# Altium footprint library Conn Header Breakaway.PcbLib: 40 footprints (part 4 of 4)
Each footprint in its own frame and in the unit in brackets; x right, y up, seen from the top. Pads: shape width x height; smd on the part's side, far side on the other; paste and mask are expansions set on the pad; w line width, h text height; cw(c..) or ccw(c..) is an arc to the next point about the centre after c.
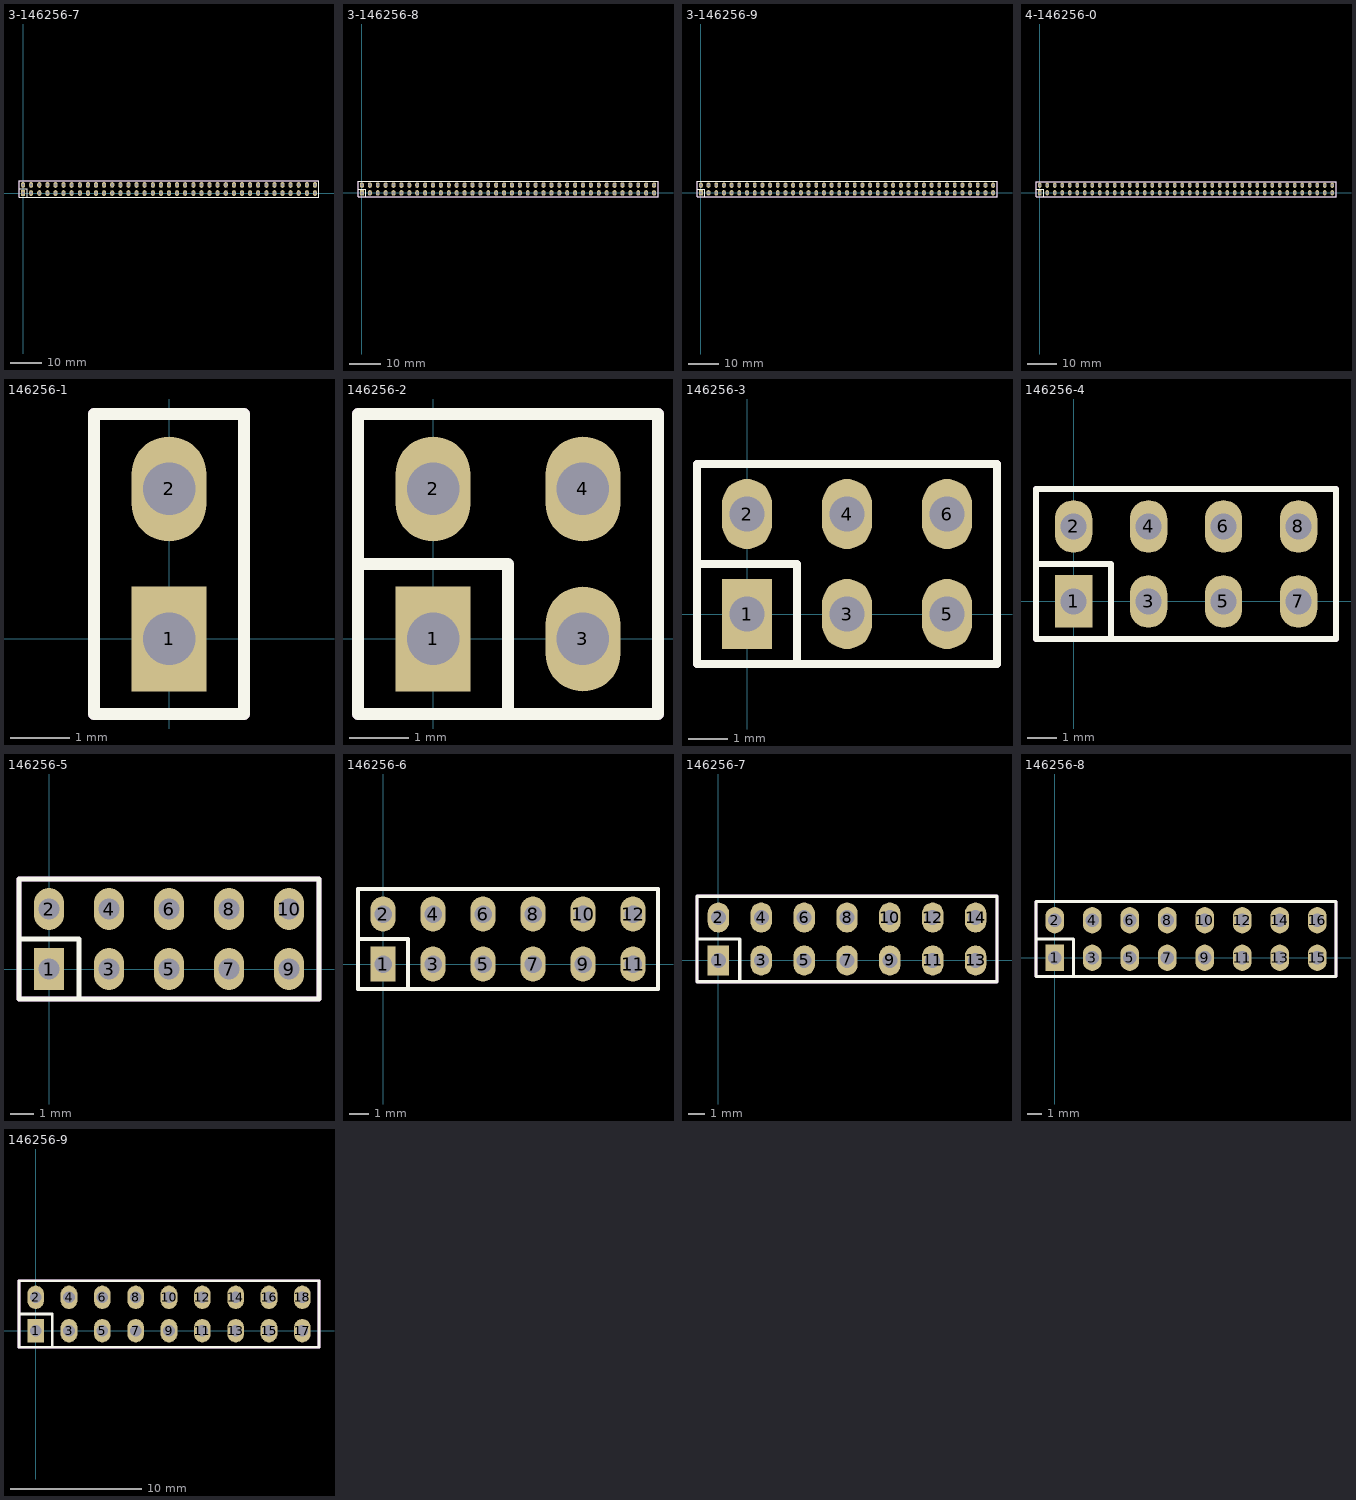
[diagram p3: the footprints below, top view; thin cyan lines are the x and y axes]

## 3-146256-7 [mil] "CONN Header Breakaway"
pads (74):
  rect 50x70 hole 35: 1(0,0)
  oval 50x70 hole 35: 2(0,100) 3(100,0) 4(100,100) 5(200,0) 6(200,100) 7(300,0) 8(300,100) 9(400,0) 10(400,100) 11(500,0) 12(500,100) 13(600,0) 14(600,100) 15(700,0) 16(700,100) 17(800,0) 18(800,100) 19(900,0) 20(900,100) 21(1000,0) 22(1000,100) 23(1100,0) 24(1100,100) 25(1200,0) 26(1200,100) 27(1300,0) 28(1300,100) 29(1400,0) 30(1400,100) 31(1500,0) 32(1500,100) 33(1600,0) 34(1600,100) 35(1700,0) 36(1700,100) 37(1800,0) 38(1800,100) 39(1900,0) 40(1900,100) 41(2000,0) 42(2000,100) 43(2100,0) 44(2100,100) 45(2200,0) 46(2200,100) 47(2300,0) 48(2300,100) 49(2400,0) 50(2400,100) 51(2500,0) 52(2500,100) 53(2600,0) 54(2600,100) 55(2700,0) 56(2700,100) 57(2800,0) 58(2800,100) 59(2900,0) 60(2900,100) 61(3000,0) 62(3000,100) 63(3100,0) 64(3100,100) 65(3200,0) 66(3200,100) 67(3300,0) 68(3300,100) 69(3400,0) 70(3400,100) 71(3500,0) 72(3500,100) 73(3600,0) 74(3600,100)
Top Overlay:
  lines w7.87: -50,50 50,50 50,-50 ; -50,-50 3650,-50 3650,150 -50,150 -50,-50
Mechanical 1:
  lines w7.87: -50,-50 -50,150 3650,150 3650,-50 -50,-50
3D body: height 320, standoff -120, extent -12.5,87.5 12.5,112.5
3D body: height 90, standoff 0, extent -50,-45.99 50,146.01
3D body: height 320, standoff -120, extent -12.5,-12.5 12.5,12.5
3D body: height 320, standoff -120, extent 87.5,87.5 112.5,112.5
3D body: height 90, standoff 0, extent 50,-45.99 150,146.01
3D body: height 320, standoff -120, extent 87.5,-12.5 112.5,12.5
3D body: height 320, standoff -120, extent 187.5,87.5 212.5,112.5
3D body: height 90, standoff 0, extent 150,-45.99 250,146.01
3D body: height 320, standoff -120, extent 187.5,-12.5 212.5,12.5
3D body: height 320, standoff -120, extent 287.5,87.5 312.5,112.5
3D body: height 90, standoff 0, extent 250,-45.99 350,146.01
3D body: height 320, standoff -120, extent 287.5,-12.5 312.5,12.5
3D body: height 320, standoff -120, extent 387.5,87.5 412.5,112.5
3D body: height 90, standoff 0, extent 350,-45.99 450,146.01
3D body: height 320, standoff -120, extent 387.5,-12.5 412.5,12.5
3D body: height 320, standoff -120, extent 487.5,87.5 512.5,112.5
3D body: height 90, standoff 0, extent 450,-45.99 550,146.01
3D body: height 320, standoff -120, extent 487.5,-12.5 512.5,12.5
3D body: height 320, standoff -120, extent 587.5,87.5 612.5,112.5
3D body: height 90, standoff 0, extent 550,-45.99 650,146.01
3D body: height 320, standoff -120, extent 587.5,-12.5 612.5,12.5
3D body: height 320, standoff -120, extent 687.5,87.5 712.5,112.5
3D body: height 90, standoff 0, extent 650,-45.99 750,146.01
3D body: height 320, standoff -120, extent 687.5,-12.5 712.5,12.5
3D body: height 320, standoff -120, extent 787.5,87.5 812.5,112.5
3D body: height 90, standoff 0, extent 750,-45.99 850,146.01
3D body: height 320, standoff -120, extent 787.5,-12.5 812.5,12.5
3D body: height 320, standoff -120, extent 887.5,87.5 912.5,112.5
3D body: height 90, standoff 0, extent 850,-45.99 950,146.01
3D body: height 320, standoff -120, extent 887.5,-12.5 912.5,12.5
3D body: height 320, standoff -120, extent 987.5,87.5 1012.5,112.5
3D body: height 90, standoff 0, extent 950,-45.99 1050,146.01
3D body: height 320, standoff -120, extent 987.5,-12.5 1012.5,12.5
3D body: height 320, standoff -120, extent 1087.5,87.5 1112.5,112.5
3D body: height 90, standoff 0, extent 1050,-45.99 1150,146.01
3D body: height 320, standoff -120, extent 1087.5,-12.5 1112.5,12.5
3D body: height 320, standoff -120, extent 1187.5,87.5 1212.5,112.5
3D body: height 90, standoff 0, extent 1150,-45.99 1250,146.01
3D body: height 320, standoff -120, extent 1187.5,-12.5 1212.5,12.5
3D body: height 320, standoff -120, extent 1287.5,87.5 1312.5,112.5
3D body: height 90, standoff 0, extent 1250,-45.99 1350,146.01
3D body: height 320, standoff -120, extent 1287.5,-12.5 1312.5,12.5
3D body: height 320, standoff -120, extent 1387.5,87.5 1412.5,112.5
3D body: height 90, standoff 0, extent 1350,-45.99 1450,146.01
3D body: height 320, standoff -120, extent 1387.5,-12.5 1412.5,12.5
3D body: height 320, standoff -120, extent 1487.5,87.5 1512.5,112.5
3D body: height 90, standoff 0, extent 1450,-45.99 1550,146.01
3D body: height 320, standoff -120, extent 1487.5,-12.5 1512.5,12.5
3D body: height 320, standoff -120, extent 1587.5,87.5 1612.5,112.5
3D body: height 90, standoff 0, extent 1550,-45.99 1650,146.01
3D body: height 320, standoff -120, extent 1587.5,-12.5 1612.5,12.5
3D body: height 320, standoff -120, extent 1687.5,87.5 1712.5,112.5
3D body: height 90, standoff 0, extent 1650,-45.99 1750,146.01
3D body: height 320, standoff -120, extent 1687.5,-12.5 1712.5,12.5
3D body: height 320, standoff -120, extent 1787.5,87.5 1812.5,112.5
3D body: height 90, standoff 0, extent 1750,-45.99 1850,146.01
3D body: height 320, standoff -120, extent 1787.5,-12.5 1812.5,12.5
3D body: height 320, standoff -120, extent 1887.5,87.5 1912.5,112.5
3D body: height 90, standoff 0, extent 1850,-45.99 1950,146.01
3D body: height 320, standoff -120, extent 1887.5,-12.5 1912.5,12.5
3D body: height 320, standoff -120, extent 1987.5,87.5 2012.5,112.5
3D body: height 90, standoff 0, extent 1950,-45.99 2050,146.01
3D body: height 320, standoff -120, extent 1987.5,-12.5 2012.5,12.5
3D body: height 320, standoff -120, extent 2087.5,87.5 2112.5,112.5
3D body: height 90, standoff 0, extent 2050,-45.99 2150,146.01
3D body: height 320, standoff -120, extent 2087.5,-12.5 2112.5,12.5
3D body: height 320, standoff -120, extent 2187.5,87.5 2212.5,112.5
3D body: height 90, standoff 0, extent 2150,-45.99 2250,146.01
3D body: height 320, standoff -120, extent 2187.5,-12.5 2212.5,12.5
3D body: height 320, standoff -120, extent 2287.5,87.5 2312.5,112.5
3D body: height 90, standoff 0, extent 2250,-45.99 2350,146.01
3D body: height 320, standoff -120, extent 2287.5,-12.5 2312.5,12.5
3D body: height 320, standoff -120, extent 2387.5,87.5 2412.5,112.5
3D body: height 90, standoff 0, extent 2350,-45.99 2450,146.01
3D body: height 320, standoff -120, extent 2387.5,-12.5 2412.5,12.5
3D body: height 320, standoff -120, extent 2487.5,87.5 2512.5,112.5
3D body: height 90, standoff 0, extent 2450,-45.99 2550,146.01
3D body: height 320, standoff -120, extent 2487.5,-12.5 2512.5,12.5
3D body: height 320, standoff -120, extent 2587.5,87.5 2612.5,112.5
3D body: height 90, standoff 0, extent 2550,-45.99 2650,146.01
3D body: height 320, standoff -120, extent 2587.5,-12.5 2612.5,12.5
3D body: height 320, standoff -120, extent 2687.5,87.5 2712.5,112.5
3D body: height 90, standoff 0, extent 2650,-45.99 2750,146.01
3D body: height 320, standoff -120, extent 2687.5,-12.5 2712.5,12.5
3D body: height 320, standoff -120, extent 2787.5,87.5 2812.5,112.5
3D body: height 90, standoff 0, extent 2750,-45.99 2850,146.01
3D body: height 320, standoff -120, extent 2787.5,-12.5 2812.5,12.5
3D body: height 320, standoff -120, extent 2887.5,87.5 2912.5,112.5
3D body: height 90, standoff 0, extent 2850,-45.99 2950,146.01
3D body: height 320, standoff -120, extent 2887.5,-12.5 2912.5,12.5
3D body: height 320, standoff -120, extent 2987.5,87.5 3012.5,112.5
3D body: height 90, standoff 0, extent 2950,-45.99 3050,146.01
3D body: height 320, standoff -120, extent 2987.5,-12.5 3012.5,12.5
3D body: height 320, standoff -120, extent 3087.5,87.5 3112.5,112.5
3D body: height 90, standoff 0, extent 3050,-45.99 3150,146.01
3D body: height 320, standoff -120, extent 3087.5,-12.5 3112.5,12.5
3D body: height 320, standoff -120, extent 3187.5,87.5 3212.5,112.5
3D body: height 90, standoff 0, extent 3150,-45.99 3250,146.01
3D body: height 320, standoff -120, extent 3187.5,-12.5 3212.5,12.5
3D body: height 320, standoff -120, extent 3287.5,87.5 3312.5,112.5
3D body: height 90, standoff 0, extent 3250,-45.99 3350,146.01
3D body: height 320, standoff -120, extent 3287.5,-12.5 3312.5,12.5
3D body: height 320, standoff -120, extent 3387.5,87.5 3412.5,112.5
3D body: height 90, standoff 0, extent 3350,-45.99 3450,146.01
3D body: height 320, standoff -120, extent 3387.5,-12.5 3412.5,12.5
3D body: height 320, standoff -120, extent 3487.5,87.5 3512.5,112.5
3D body: height 90, standoff 0, extent 3450,-45.99 3550,146.01
3D body: height 320, standoff -120, extent 3487.5,-12.5 3512.5,12.5
3D body: height 320, standoff -120, extent 3587.5,87.5 3612.5,112.5
3D body: height 90, standoff 0, extent 3550,-45.99 3650,146.01
3D body: height 320, standoff -120, extent 3587.5,-12.5 3612.5,12.5

## 3-146256-8 [mil] "CONN Header Breakaway"
pads (76):
  rect 50x70 hole 35: 1(0,0)
  oval 50x70 hole 35: 2(0,100) 3(100,0) 4(100,100) 5(200,0) 6(200,100) 7(300,0) 8(300,100) 9(400,0) 10(400,100) 11(500,0) 12(500,100) 13(600,0) 14(600,100) 15(700,0) 16(700,100) 17(800,0) 18(800,100) 19(900,0) 20(900,100) 21(1000,0) 22(1000,100) 23(1100,0) 24(1100,100) 25(1200,0) 26(1200,100) 27(1300,0) 28(1300,100) 29(1400,0) 30(1400,100) 31(1500,0) 32(1500,100) 33(1600,0) 34(1600,100) 35(1700,0) 36(1700,100) 37(1800,0) 38(1800,100) 39(1900,0) 40(1900,100) 41(2000,0) 42(2000,100) 43(2100,0) 44(2100,100) 45(2200,0) 46(2200,100) 47(2300,0) 48(2300,100) 49(2400,0) 50(2400,100) 51(2500,0) 52(2500,100) 53(2600,0) 54(2600,100) 55(2700,0) 56(2700,100) 57(2800,0) 58(2800,100) 59(2900,0) 60(2900,100) 61(3000,0) 62(3000,100) 63(3100,0) 64(3100,100) 65(3200,0) 66(3200,100) 67(3300,0) 68(3300,100) 69(3400,0) 70(3400,100) 71(3500,0) 72(3500,100) 73(3600,0) 74(3600,100) 75(3700,0) 76(3700,100)
Top Overlay:
  lines w7.87: -50,50 50,50 50,-50 ; -50,-50 3750,-50 3750,150 -50,150 -50,-50
Mechanical 1:
  lines w7.87: -50,-50 -50,150 3750,150 3750,-50 -50,-50
3D body: height 320, standoff -120, extent -12.5,87.5 12.5,112.5
3D body: height 90, standoff 0, extent -50,-45.99 50,146.01
3D body: height 320, standoff -120, extent -12.5,-12.5 12.5,12.5
3D body: height 320, standoff -120, extent 87.5,87.5 112.5,112.5
3D body: height 90, standoff 0, extent 50,-45.99 150,146.01
3D body: height 320, standoff -120, extent 87.5,-12.5 112.5,12.5
3D body: height 320, standoff -120, extent 187.5,87.5 212.5,112.5
3D body: height 90, standoff 0, extent 150,-45.99 250,146.01
3D body: height 320, standoff -120, extent 187.5,-12.5 212.5,12.5
3D body: height 320, standoff -120, extent 287.5,87.5 312.5,112.5
3D body: height 90, standoff 0, extent 250,-45.99 350,146.01
3D body: height 320, standoff -120, extent 287.5,-12.5 312.5,12.5
3D body: height 320, standoff -120, extent 387.5,87.5 412.5,112.5
3D body: height 90, standoff 0, extent 350,-45.99 450,146.01
3D body: height 320, standoff -120, extent 387.5,-12.5 412.5,12.5
3D body: height 320, standoff -120, extent 487.5,87.5 512.5,112.5
3D body: height 90, standoff 0, extent 450,-45.99 550,146.01
3D body: height 320, standoff -120, extent 487.5,-12.5 512.5,12.5
3D body: height 320, standoff -120, extent 587.5,87.5 612.5,112.5
3D body: height 90, standoff 0, extent 550,-45.99 650,146.01
3D body: height 320, standoff -120, extent 587.5,-12.5 612.5,12.5
3D body: height 320, standoff -120, extent 687.5,87.5 712.5,112.5
3D body: height 90, standoff 0, extent 650,-45.99 750,146.01
3D body: height 320, standoff -120, extent 687.5,-12.5 712.5,12.5
3D body: height 320, standoff -120, extent 787.5,87.5 812.5,112.5
3D body: height 90, standoff 0, extent 750,-45.99 850,146.01
3D body: height 320, standoff -120, extent 787.5,-12.5 812.5,12.5
3D body: height 320, standoff -120, extent 887.5,87.5 912.5,112.5
3D body: height 90, standoff 0, extent 850,-45.99 950,146.01
3D body: height 320, standoff -120, extent 887.5,-12.5 912.5,12.5
3D body: height 320, standoff -120, extent 987.5,87.5 1012.5,112.5
3D body: height 90, standoff 0, extent 950,-45.99 1050,146.01
3D body: height 320, standoff -120, extent 987.5,-12.5 1012.5,12.5
3D body: height 320, standoff -120, extent 1087.5,87.5 1112.5,112.5
3D body: height 90, standoff 0, extent 1050,-45.99 1150,146.01
3D body: height 320, standoff -120, extent 1087.5,-12.5 1112.5,12.5
3D body: height 320, standoff -120, extent 1187.5,87.5 1212.5,112.5
3D body: height 90, standoff 0, extent 1150,-45.99 1250,146.01
3D body: height 320, standoff -120, extent 1187.5,-12.5 1212.5,12.5
3D body: height 320, standoff -120, extent 1287.5,87.5 1312.5,112.5
3D body: height 90, standoff 0, extent 1250,-45.99 1350,146.01
3D body: height 320, standoff -120, extent 1287.5,-12.5 1312.5,12.5
3D body: height 320, standoff -120, extent 1387.5,87.5 1412.5,112.5
3D body: height 90, standoff 0, extent 1350,-45.99 1450,146.01
3D body: height 320, standoff -120, extent 1387.5,-12.5 1412.5,12.5
3D body: height 320, standoff -120, extent 1487.5,87.5 1512.5,112.5
3D body: height 90, standoff 0, extent 1450,-45.99 1550,146.01
3D body: height 320, standoff -120, extent 1487.5,-12.5 1512.5,12.5
3D body: height 320, standoff -120, extent 1587.5,87.5 1612.5,112.5
3D body: height 90, standoff 0, extent 1550,-45.99 1650,146.01
3D body: height 320, standoff -120, extent 1587.5,-12.5 1612.5,12.5
3D body: height 320, standoff -120, extent 1687.5,87.5 1712.5,112.5
3D body: height 90, standoff 0, extent 1650,-45.99 1750,146.01
3D body: height 320, standoff -120, extent 1687.5,-12.5 1712.5,12.5
3D body: height 320, standoff -120, extent 1787.5,87.5 1812.5,112.5
3D body: height 90, standoff 0, extent 1750,-45.99 1850,146.01
3D body: height 320, standoff -120, extent 1787.5,-12.5 1812.5,12.5
3D body: height 320, standoff -120, extent 1887.5,87.5 1912.5,112.5
3D body: height 90, standoff 0, extent 1850,-45.99 1950,146.01
3D body: height 320, standoff -120, extent 1887.5,-12.5 1912.5,12.5
3D body: height 320, standoff -120, extent 1987.5,87.5 2012.5,112.5
3D body: height 90, standoff 0, extent 1950,-45.99 2050,146.01
3D body: height 320, standoff -120, extent 1987.5,-12.5 2012.5,12.5
3D body: height 320, standoff -120, extent 2087.5,87.5 2112.5,112.5
3D body: height 90, standoff 0, extent 2050,-45.99 2150,146.01
3D body: height 320, standoff -120, extent 2087.5,-12.5 2112.5,12.5
3D body: height 320, standoff -120, extent 2187.5,87.5 2212.5,112.5
3D body: height 90, standoff 0, extent 2150,-45.99 2250,146.01
3D body: height 320, standoff -120, extent 2187.5,-12.5 2212.5,12.5
3D body: height 320, standoff -120, extent 2287.5,87.5 2312.5,112.5
3D body: height 90, standoff 0, extent 2250,-45.99 2350,146.01
3D body: height 320, standoff -120, extent 2287.5,-12.5 2312.5,12.5
3D body: height 320, standoff -120, extent 2387.5,87.5 2412.5,112.5
3D body: height 90, standoff 0, extent 2350,-45.99 2450,146.01
3D body: height 320, standoff -120, extent 2387.5,-12.5 2412.5,12.5
3D body: height 320, standoff -120, extent 2487.5,87.5 2512.5,112.5
3D body: height 90, standoff 0, extent 2450,-45.99 2550,146.01
3D body: height 320, standoff -120, extent 2487.5,-12.5 2512.5,12.5
3D body: height 320, standoff -120, extent 2587.5,87.5 2612.5,112.5
3D body: height 90, standoff 0, extent 2550,-45.99 2650,146.01
3D body: height 320, standoff -120, extent 2587.5,-12.5 2612.5,12.5
3D body: height 320, standoff -120, extent 2687.5,87.5 2712.5,112.5
3D body: height 90, standoff 0, extent 2650,-45.99 2750,146.01
3D body: height 320, standoff -120, extent 2687.5,-12.5 2712.5,12.5
3D body: height 320, standoff -120, extent 2787.5,87.5 2812.5,112.5
3D body: height 90, standoff 0, extent 2750,-45.99 2850,146.01
3D body: height 320, standoff -120, extent 2787.5,-12.5 2812.5,12.5
3D body: height 320, standoff -120, extent 2887.5,87.5 2912.5,112.5
3D body: height 90, standoff 0, extent 2850,-45.99 2950,146.01
3D body: height 320, standoff -120, extent 2887.5,-12.5 2912.5,12.5
3D body: height 320, standoff -120, extent 2987.5,87.5 3012.5,112.5
3D body: height 90, standoff 0, extent 2950,-45.99 3050,146.01
3D body: height 320, standoff -120, extent 2987.5,-12.5 3012.5,12.5
3D body: height 320, standoff -120, extent 3087.5,87.5 3112.5,112.5
3D body: height 90, standoff 0, extent 3050,-45.99 3150,146.01
3D body: height 320, standoff -120, extent 3087.5,-12.5 3112.5,12.5
3D body: height 320, standoff -120, extent 3187.5,87.5 3212.5,112.5
3D body: height 90, standoff 0, extent 3150,-45.99 3250,146.01
3D body: height 320, standoff -120, extent 3187.5,-12.5 3212.5,12.5
3D body: height 320, standoff -120, extent 3287.5,87.5 3312.5,112.5
3D body: height 90, standoff 0, extent 3250,-45.99 3350,146.01
3D body: height 320, standoff -120, extent 3287.5,-12.5 3312.5,12.5
3D body: height 320, standoff -120, extent 3387.5,87.5 3412.5,112.5
3D body: height 90, standoff 0, extent 3350,-45.99 3450,146.01
3D body: height 320, standoff -120, extent 3387.5,-12.5 3412.5,12.5
3D body: height 320, standoff -120, extent 3487.5,87.5 3512.5,112.5
3D body: height 90, standoff 0, extent 3450,-45.99 3550,146.01
3D body: height 320, standoff -120, extent 3487.5,-12.5 3512.5,12.5
3D body: height 320, standoff -120, extent 3587.5,87.5 3612.5,112.5
3D body: height 90, standoff 0, extent 3550,-45.99 3650,146.01
3D body: height 320, standoff -120, extent 3587.5,-12.5 3612.5,12.5
3D body: height 320, standoff -120, extent 3687.5,87.5 3712.5,112.5
3D body: height 90, standoff 0, extent 3650,-45.99 3750,146.01
3D body: height 320, standoff -120, extent 3687.5,-12.5 3712.5,12.5

## 3-146256-9 [mil] "CONN Header Breakaway"
pads (78):
  rect 50x70 hole 35: 1(0,0)
  oval 50x70 hole 35: 2(0,100) 3(100,0) 4(100,100) 5(200,0) 6(200,100) 7(300,0) 8(300,100) 9(400,0) 10(400,100) 11(500,0) 12(500,100) 13(600,0) 14(600,100) 15(700,0) 16(700,100) 17(800,0) 18(800,100) 19(900,0) 20(900,100) 21(1000,0) 22(1000,100) 23(1100,0) 24(1100,100) 25(1200,0) 26(1200,100) 27(1300,0) 28(1300,100) 29(1400,0) 30(1400,100) 31(1500,0) 32(1500,100) 33(1600,0) 34(1600,100) 35(1700,0) 36(1700,100) 37(1800,0) 38(1800,100) 39(1900,0) 40(1900,100) 41(2000,0) 42(2000,100) 43(2100,0) 44(2100,100) 45(2200,0) 46(2200,100) 47(2300,0) 48(2300,100) 49(2400,0) 50(2400,100) 51(2500,0) 52(2500,100) 53(2600,0) 54(2600,100) 55(2700,0) 56(2700,100) 57(2800,0) 58(2800,100) 59(2900,0) 60(2900,100) 61(3000,0) 62(3000,100) 63(3100,0) 64(3100,100) 65(3200,0) 66(3200,100) 67(3300,0) 68(3300,100) 69(3400,0) 70(3400,100) 71(3500,0) 72(3500,100) 73(3600,0) 74(3600,100) 75(3700,0) 76(3700,100) 77(3800,0) 78(3800,100)
Top Overlay:
  lines w7.87: -50,50 50,50 50,-50 ; -50,-50 -50,150 3850,150 3850,-50 -50,-50
Mechanical 1:
  lines w7.87: -50,-50 3850,-50 3850,150 -50,150 -50,-50
3D body: height 320, standoff -120, extent -12.5,87.5 12.5,112.5
3D body: height 90, standoff 0, extent -50,-45.99 50,146.01
3D body: height 320, standoff -120, extent -12.5,-12.5 12.5,12.5
3D body: height 320, standoff -120, extent 87.5,87.5 112.5,112.5
3D body: height 90, standoff 0, extent 50,-45.99 150,146.01
3D body: height 320, standoff -120, extent 87.5,-12.5 112.5,12.5
3D body: height 320, standoff -120, extent 187.5,87.5 212.5,112.5
3D body: height 90, standoff 0, extent 150,-45.99 250,146.01
3D body: height 320, standoff -120, extent 187.5,-12.5 212.5,12.5
3D body: height 320, standoff -120, extent 287.5,87.5 312.5,112.5
3D body: height 90, standoff 0, extent 250,-45.99 350,146.01
3D body: height 320, standoff -120, extent 287.5,-12.5 312.5,12.5
3D body: height 320, standoff -120, extent 387.5,87.5 412.5,112.5
3D body: height 90, standoff 0, extent 350,-45.99 450,146.01
3D body: height 320, standoff -120, extent 387.5,-12.5 412.5,12.5
3D body: height 320, standoff -120, extent 487.5,87.5 512.5,112.5
3D body: height 90, standoff 0, extent 450,-45.99 550,146.01
3D body: height 320, standoff -120, extent 487.5,-12.5 512.5,12.5
3D body: height 320, standoff -120, extent 587.5,87.5 612.5,112.5
3D body: height 90, standoff 0, extent 550,-45.99 650,146.01
3D body: height 320, standoff -120, extent 587.5,-12.5 612.5,12.5
3D body: height 320, standoff -120, extent 687.5,87.5 712.5,112.5
3D body: height 90, standoff 0, extent 650,-45.99 750,146.01
3D body: height 320, standoff -120, extent 687.5,-12.5 712.5,12.5
3D body: height 320, standoff -120, extent 787.5,87.5 812.5,112.5
3D body: height 90, standoff 0, extent 750,-45.99 850,146.01
3D body: height 320, standoff -120, extent 787.5,-12.5 812.5,12.5
3D body: height 320, standoff -120, extent 887.5,87.5 912.5,112.5
3D body: height 90, standoff 0, extent 850,-45.99 950,146.01
3D body: height 320, standoff -120, extent 887.5,-12.5 912.5,12.5
3D body: height 320, standoff -120, extent 987.5,87.5 1012.5,112.5
3D body: height 90, standoff 0, extent 950,-45.99 1050,146.01
3D body: height 320, standoff -120, extent 987.5,-12.5 1012.5,12.5
3D body: height 320, standoff -120, extent 1087.5,87.5 1112.5,112.5
3D body: height 90, standoff 0, extent 1050,-45.99 1150,146.01
3D body: height 320, standoff -120, extent 1087.5,-12.5 1112.5,12.5
3D body: height 320, standoff -120, extent 1187.5,87.5 1212.5,112.5
3D body: height 90, standoff 0, extent 1150,-45.99 1250,146.01
3D body: height 320, standoff -120, extent 1187.5,-12.5 1212.5,12.5
3D body: height 320, standoff -120, extent 1287.5,87.5 1312.5,112.5
3D body: height 90, standoff 0, extent 1250,-45.99 1350,146.01
3D body: height 320, standoff -120, extent 1287.5,-12.5 1312.5,12.5
3D body: height 320, standoff -120, extent 1387.5,87.5 1412.5,112.5
3D body: height 90, standoff 0, extent 1350,-45.99 1450,146.01
3D body: height 320, standoff -120, extent 1387.5,-12.5 1412.5,12.5
3D body: height 320, standoff -120, extent 1487.5,87.5 1512.5,112.5
3D body: height 90, standoff 0, extent 1450,-45.99 1550,146.01
3D body: height 320, standoff -120, extent 1487.5,-12.5 1512.5,12.5
3D body: height 320, standoff -120, extent 1587.5,87.5 1612.5,112.5
3D body: height 90, standoff 0, extent 1550,-45.99 1650,146.01
3D body: height 320, standoff -120, extent 1587.5,-12.5 1612.5,12.5
3D body: height 320, standoff -120, extent 1687.5,87.5 1712.5,112.5
3D body: height 90, standoff 0, extent 1650,-45.99 1750,146.01
3D body: height 320, standoff -120, extent 1687.5,-12.5 1712.5,12.5
3D body: height 320, standoff -120, extent 1787.5,87.5 1812.5,112.5
3D body: height 90, standoff 0, extent 1750,-45.99 1850,146.01
3D body: height 320, standoff -120, extent 1787.5,-12.5 1812.5,12.5
3D body: height 320, standoff -120, extent 1887.5,87.5 1912.5,112.5
3D body: height 90, standoff 0, extent 1850,-45.99 1950,146.01
3D body: height 320, standoff -120, extent 1887.5,-12.5 1912.5,12.5
3D body: height 320, standoff -120, extent 1987.5,87.5 2012.5,112.5
3D body: height 90, standoff 0, extent 1950,-45.99 2050,146.01
3D body: height 320, standoff -120, extent 1987.5,-12.5 2012.5,12.5
3D body: height 320, standoff -120, extent 2087.5,87.5 2112.5,112.5
3D body: height 90, standoff 0, extent 2050,-45.99 2150,146.01
3D body: height 320, standoff -120, extent 2087.5,-12.5 2112.5,12.5
3D body: height 320, standoff -120, extent 2187.5,87.5 2212.5,112.5
3D body: height 90, standoff 0, extent 2150,-45.99 2250,146.01
3D body: height 320, standoff -120, extent 2187.5,-12.5 2212.5,12.5
3D body: height 320, standoff -120, extent 2287.5,87.5 2312.5,112.5
3D body: height 90, standoff 0, extent 2250,-45.99 2350,146.01
3D body: height 320, standoff -120, extent 2287.5,-12.5 2312.5,12.5
3D body: height 320, standoff -120, extent 2387.5,87.5 2412.5,112.5
3D body: height 90, standoff 0, extent 2350,-45.99 2450,146.01
3D body: height 320, standoff -120, extent 2387.5,-12.5 2412.5,12.5
3D body: height 320, standoff -120, extent 2487.5,87.5 2512.5,112.5
3D body: height 90, standoff 0, extent 2450,-45.99 2550,146.01
3D body: height 320, standoff -120, extent 2487.5,-12.5 2512.5,12.5
3D body: height 320, standoff -120, extent 2587.5,87.5 2612.5,112.5
3D body: height 90, standoff 0, extent 2550,-45.99 2650,146.01
3D body: height 320, standoff -120, extent 2587.5,-12.5 2612.5,12.5
3D body: height 320, standoff -120, extent 2687.5,87.5 2712.5,112.5
3D body: height 90, standoff 0, extent 2650,-45.99 2750,146.01
3D body: height 320, standoff -120, extent 2687.5,-12.5 2712.5,12.5
3D body: height 320, standoff -120, extent 2787.5,87.5 2812.5,112.5
3D body: height 90, standoff 0, extent 2750,-45.99 2850,146.01
3D body: height 320, standoff -120, extent 2787.5,-12.5 2812.5,12.5
3D body: height 320, standoff -120, extent 2887.5,87.5 2912.5,112.5
3D body: height 90, standoff 0, extent 2850,-45.99 2950,146.01
3D body: height 320, standoff -120, extent 2887.5,-12.5 2912.5,12.5
3D body: height 320, standoff -120, extent 2987.5,87.5 3012.5,112.5
3D body: height 90, standoff 0, extent 2950,-45.99 3050,146.01
3D body: height 320, standoff -120, extent 2987.5,-12.5 3012.5,12.5
3D body: height 320, standoff -120, extent 3087.5,87.5 3112.5,112.5
3D body: height 90, standoff 0, extent 3050,-45.99 3150,146.01
3D body: height 320, standoff -120, extent 3087.5,-12.5 3112.5,12.5
3D body: height 320, standoff -120, extent 3187.5,87.5 3212.5,112.5
3D body: height 90, standoff 0, extent 3150,-45.99 3250,146.01
3D body: height 320, standoff -120, extent 3187.5,-12.5 3212.5,12.5
3D body: height 320, standoff -120, extent 3287.5,87.5 3312.5,112.5
3D body: height 90, standoff 0, extent 3250,-45.99 3350,146.01
3D body: height 320, standoff -120, extent 3287.5,-12.5 3312.5,12.5
3D body: height 320, standoff -120, extent 3387.5,87.5 3412.5,112.5
3D body: height 90, standoff 0, extent 3350,-45.99 3450,146.01
3D body: height 320, standoff -120, extent 3387.5,-12.5 3412.5,12.5
3D body: height 320, standoff -120, extent 3487.5,87.5 3512.5,112.5
3D body: height 90, standoff 0, extent 3450,-45.99 3550,146.01
3D body: height 320, standoff -120, extent 3487.5,-12.5 3512.5,12.5
3D body: height 320, standoff -120, extent 3587.5,87.5 3612.5,112.5
3D body: height 90, standoff 0, extent 3550,-45.99 3650,146.01
3D body: height 320, standoff -120, extent 3587.5,-12.5 3612.5,12.5
3D body: height 320, standoff -120, extent 3687.5,87.5 3712.5,112.5
3D body: height 90, standoff 0, extent 3650,-45.99 3750,146.01
3D body: height 320, standoff -120, extent 3687.5,-12.5 3712.5,12.5
3D body: height 320, standoff -120, extent 3787.5,87.5 3812.5,112.5
3D body: height 90, standoff 0, extent 3750,-45.99 3850,146.01
3D body: height 320, standoff -120, extent 3787.5,-12.5 3812.5,12.5

## 4-146256-0 [mil] "CONN Header Breakaway"
pads (80):
  rect 50x70 hole 35: 1(0,0)
  oval 50x70 hole 35: 2(0,100) 3(100,0) 4(100,100) 5(200,0) 6(200,100) 7(300,0) 8(300,100) 9(400,0) 10(400,100) 11(500,0) 12(500,100) 13(600,0) 14(600,100) 15(700,0) 16(700,100) 17(800,0) 18(800,100) 19(900,0) 20(900,100) 21(1000,0) 22(1000,100) 23(1100,0) 24(1100,100) 25(1200,0) 26(1200,100) 27(1300,0) 28(1300,100) 29(1400,0) 30(1400,100) 31(1500,0) 32(1500,100) 33(1600,0) 34(1600,100) 35(1700,0) 36(1700,100) 37(1800,0) 38(1800,100) 39(1900,0) 40(1900,100) 41(2000,0) 42(2000,100) 43(2100,0) 44(2100,100) 45(2200,0) 46(2200,100) 47(2300,0) 48(2300,100) 49(2400,0) 50(2400,100) 51(2500,0) 52(2500,100) 53(2600,0) 54(2600,100) 55(2700,0) 56(2700,100) 57(2800,0) 58(2800,100) 59(2900,0) 60(2900,100) 61(3000,0) 62(3000,100) 63(3100,0) 64(3100,100) 65(3200,0) 66(3200,100) 67(3300,0) 68(3300,100) 69(3400,0) 70(3400,100) 71(3500,0) 72(3500,100) 73(3600,0) 74(3600,100) 75(3700,0) 76(3700,100) 77(3800,0) 78(3800,100) 79(3900,0) 80(3900,100)
Top Overlay:
  lines w7.87: -50,50 50,50 50,-50 ; -50,-50 3950,-50 3950,150 -50,150 -50,-50
Mechanical 1:
  lines w7.87: -50,-50 -50,150 3950,150 3950,-50 -50,-50
3D body: height 320, standoff -120, extent 3887.5,-12.5 3912.5,12.5
3D body: height 90, standoff 0, extent 3850,-45.99 3950,146.01
3D body: height 320, standoff -120, extent 3887.5,87.5 3912.5,112.5
3D body: height 320, standoff -120, extent 3787.5,-12.5 3812.5,12.5
3D body: height 90, standoff 0, extent 3750,-45.99 3850,146.01
3D body: height 320, standoff -120, extent 3787.5,87.5 3812.5,112.5
3D body: height 320, standoff -120, extent 3687.5,-12.5 3712.5,12.5
3D body: height 90, standoff 0, extent 3650,-45.99 3750,146.01
3D body: height 320, standoff -120, extent 3687.5,87.5 3712.5,112.5
3D body: height 320, standoff -120, extent 3587.5,-12.5 3612.5,12.5
3D body: height 90, standoff 0, extent 3550,-45.99 3650,146.01
3D body: height 320, standoff -120, extent 3587.5,87.5 3612.5,112.5
3D body: height 320, standoff -120, extent 3487.5,-12.5 3512.5,12.5
3D body: height 90, standoff 0, extent 3450,-45.99 3550,146.01
3D body: height 320, standoff -120, extent 3487.5,87.5 3512.5,112.5
3D body: height 320, standoff -120, extent 3387.5,-12.5 3412.5,12.5
3D body: height 90, standoff 0, extent 3350,-45.99 3450,146.01
3D body: height 320, standoff -120, extent 3387.5,87.5 3412.5,112.5
3D body: height 320, standoff -120, extent 3287.5,-12.5 3312.5,12.5
3D body: height 90, standoff 0, extent 3250,-45.99 3350,146.01
3D body: height 320, standoff -120, extent 3287.5,87.5 3312.5,112.5
3D body: height 320, standoff -120, extent 3187.5,-12.5 3212.5,12.5
3D body: height 90, standoff 0, extent 3150,-45.99 3250,146.01
3D body: height 320, standoff -120, extent 3187.5,87.5 3212.5,112.5
3D body: height 320, standoff -120, extent 3087.5,-12.5 3112.5,12.5
3D body: height 90, standoff 0, extent 3050,-45.99 3150,146.01
3D body: height 320, standoff -120, extent 3087.5,87.5 3112.5,112.5
3D body: height 320, standoff -120, extent 2987.5,-12.5 3012.5,12.5
3D body: height 90, standoff 0, extent 2950,-45.99 3050,146.01
3D body: height 320, standoff -120, extent 2987.5,87.5 3012.5,112.5
3D body: height 320, standoff -120, extent 2887.5,-12.5 2912.5,12.5
3D body: height 90, standoff 0, extent 2850,-45.99 2950,146.01
3D body: height 320, standoff -120, extent 2887.5,87.5 2912.5,112.5
3D body: height 320, standoff -120, extent 2787.5,-12.5 2812.5,12.5
3D body: height 90, standoff 0, extent 2750,-45.99 2850,146.01
3D body: height 320, standoff -120, extent 2787.5,87.5 2812.5,112.5
3D body: height 320, standoff -120, extent 2687.5,-12.5 2712.5,12.5
3D body: height 90, standoff 0, extent 2650,-45.99 2750,146.01
3D body: height 320, standoff -120, extent 2687.5,87.5 2712.5,112.5
3D body: height 320, standoff -120, extent 2587.5,-12.5 2612.5,12.5
3D body: height 90, standoff 0, extent 2550,-45.99 2650,146.01
3D body: height 320, standoff -120, extent 2587.5,87.5 2612.5,112.5
3D body: height 320, standoff -120, extent 2487.5,-12.5 2512.5,12.5
3D body: height 90, standoff 0, extent 2450,-45.99 2550,146.01
3D body: height 320, standoff -120, extent 2487.5,87.5 2512.5,112.5
3D body: height 320, standoff -120, extent 2387.5,-12.5 2412.5,12.5
3D body: height 90, standoff 0, extent 2350,-45.99 2450,146.01
3D body: height 320, standoff -120, extent 2387.5,87.5 2412.5,112.5
3D body: height 320, standoff -120, extent 2287.5,-12.5 2312.5,12.5
3D body: height 90, standoff 0, extent 2250,-45.99 2350,146.01
3D body: height 320, standoff -120, extent 2287.5,87.5 2312.5,112.5
3D body: height 320, standoff -120, extent 2187.5,-12.5 2212.5,12.5
3D body: height 90, standoff 0, extent 2150,-45.99 2250,146.01
3D body: height 320, standoff -120, extent 2187.5,87.5 2212.5,112.5
3D body: height 320, standoff -120, extent 2087.5,-12.5 2112.5,12.5
3D body: height 90, standoff 0, extent 2050,-45.99 2150,146.01
3D body: height 320, standoff -120, extent 2087.5,87.5 2112.5,112.5
3D body: height 320, standoff -120, extent 1987.5,-12.5 2012.5,12.5
3D body: height 90, standoff 0, extent 1950,-45.99 2050,146.01
3D body: height 320, standoff -120, extent 1987.5,87.5 2012.5,112.5
3D body: height 320, standoff -120, extent 1887.5,-12.5 1912.5,12.5
3D body: height 90, standoff 0, extent 1850,-45.99 1950,146.01
3D body: height 320, standoff -120, extent 1887.5,87.5 1912.5,112.5
3D body: height 320, standoff -120, extent 1787.5,-12.5 1812.5,12.5
3D body: height 90, standoff 0, extent 1750,-45.99 1850,146.01
3D body: height 320, standoff -120, extent 1787.5,87.5 1812.5,112.5
3D body: height 320, standoff -120, extent 1687.5,-12.5 1712.5,12.5
3D body: height 90, standoff 0, extent 1650,-45.99 1750,146.01
3D body: height 320, standoff -120, extent 1687.5,87.5 1712.5,112.5
3D body: height 320, standoff -120, extent 1587.5,-12.5 1612.5,12.5
3D body: height 90, standoff 0, extent 1550,-45.99 1650,146.01
3D body: height 320, standoff -120, extent 1587.5,87.5 1612.5,112.5
3D body: height 320, standoff -120, extent 1487.5,-12.5 1512.5,12.5
3D body: height 90, standoff 0, extent 1450,-45.99 1550,146.01
3D body: height 320, standoff -120, extent 1487.5,87.5 1512.5,112.5
3D body: height 320, standoff -120, extent 1387.5,-12.5 1412.5,12.5
3D body: height 90, standoff 0, extent 1350,-45.99 1450,146.01
3D body: height 320, standoff -120, extent 1387.5,87.5 1412.5,112.5
3D body: height 320, standoff -120, extent 1287.5,-12.5 1312.5,12.5
3D body: height 90, standoff 0, extent 1250,-45.99 1350,146.01
3D body: height 320, standoff -120, extent 1287.5,87.5 1312.5,112.5
3D body: height 320, standoff -120, extent 1187.5,-12.5 1212.5,12.5
3D body: height 90, standoff 0, extent 1150,-45.99 1250,146.01
3D body: height 320, standoff -120, extent 1187.5,87.5 1212.5,112.5
3D body: height 320, standoff -120, extent 1087.5,-12.5 1112.5,12.5
3D body: height 90, standoff 0, extent 1050,-45.99 1150,146.01
3D body: height 320, standoff -120, extent 1087.5,87.5 1112.5,112.5
3D body: height 320, standoff -120, extent 987.5,-12.5 1012.5,12.5
3D body: height 90, standoff 0, extent 950,-45.99 1050,146.01
3D body: height 320, standoff -120, extent 987.5,87.5 1012.5,112.5
3D body: height 320, standoff -120, extent 887.5,-12.5 912.5,12.5
3D body: height 90, standoff 0, extent 850,-45.99 950,146.01
3D body: height 320, standoff -120, extent 887.5,87.5 912.5,112.5
3D body: height 320, standoff -120, extent 787.5,-12.5 812.5,12.5
3D body: height 90, standoff 0, extent 750,-45.99 850,146.01
3D body: height 320, standoff -120, extent 787.5,87.5 812.5,112.5
3D body: height 320, standoff -120, extent 687.5,-12.5 712.5,12.5
3D body: height 90, standoff 0, extent 650,-45.99 750,146.01
3D body: height 320, standoff -120, extent 687.5,87.5 712.5,112.5
3D body: height 320, standoff -120, extent 587.5,-12.5 612.5,12.5
3D body: height 90, standoff 0, extent 550,-45.99 650,146.01
3D body: height 320, standoff -120, extent 587.5,87.5 612.5,112.5
3D body: height 320, standoff -120, extent 487.5,-12.5 512.5,12.5
3D body: height 90, standoff 0, extent 450,-45.99 550,146.01
3D body: height 320, standoff -120, extent 487.5,87.5 512.5,112.5
3D body: height 320, standoff -120, extent 387.5,-12.5 412.5,12.5
3D body: height 90, standoff 0, extent 350,-45.99 450,146.01
3D body: height 320, standoff -120, extent 387.5,87.5 412.5,112.5
3D body: height 320, standoff -120, extent 287.5,-12.5 312.5,12.5
3D body: height 90, standoff 0, extent 250,-45.99 350,146.01
3D body: height 320, standoff -120, extent 287.5,87.5 312.5,112.5
3D body: height 320, standoff -120, extent 187.5,-12.5 212.5,12.5
3D body: height 90, standoff 0, extent 150,-45.99 250,146.01
3D body: height 320, standoff -120, extent 187.5,87.5 212.5,112.5
3D body: height 320, standoff -120, extent 87.5,-12.5 112.5,12.5
3D body: height 90, standoff 0, extent 50,-45.99 150,146.01
3D body: height 320, standoff -120, extent 87.5,87.5 112.5,112.5
3D body: height 320, standoff -120, extent -12.5,-12.5 12.5,12.5
3D body: height 90, standoff 0, extent -50,-45.99 50,146.01
3D body: height 320, standoff -120, extent -12.5,87.5 12.5,112.5

## 146256-1 [mil] "CONN Header Breakaway"
pads (2):
  rect 50x70 hole 35: 1(0,0)
  oval 50x70 hole 35: 2(0,100)
Top Overlay:
  lines w7.87: -50,-50 -50,150 50,150 50,-50 -50,-50
Mechanical 1:
  lines w7.87: -50,-50 50,-50 50,150 -50,150 -50,-50
3D body: height 320, standoff -120, extent -12.5,87.5 12.5,112.5
3D body: height 90, standoff 0, extent -50,-45.99 50,146.01
3D body: height 320, standoff -120, extent -12.5,-12.5 12.5,12.5

## 146256-2 [mil] "CONN Header Breakaway"
pads (4):
  rect 50x70 hole 35: 1(0,0)
  oval 50x70 hole 35: 2(0,100) 3(100,0) 4(100,100)
Top Overlay:
  lines w7.87: -50,50 50,50 50,-50 ; -50,-50 -50,150 150,150 150,-50 -50,-50
Mechanical 1:
  lines w7.87: -50,-50 150,-50 150,150 -50,150 -50,-50
3D body: height 320, standoff -120, extent -12.5,87.5 12.5,112.5
3D body: height 90, standoff 0, extent -50,-45.99 50,146.01
3D body: height 320, standoff -120, extent -12.5,-12.5 12.5,12.5
3D body: height 320, standoff -120, extent 87.5,87.5 112.5,112.5
3D body: height 90, standoff 0, extent 50,-45.99 150,146.01
3D body: height 320, standoff -120, extent 87.5,-12.5 112.5,12.5

## 146256-3 [mil] "CONN Header Breakaway"
pads (6):
  rect 50x70 hole 35: 1(0,0)
  oval 50x70 hole 35: 2(0,100) 3(100,0) 4(100,100) 5(200,0) 6(200,100)
Top Overlay:
  lines w7.87: -50,50 50,50 50,-50 ; -50,-50 -50,150 250,150 250,-50 -50,-50
Mechanical 1:
  lines w7.87: -50,-50 250,-50 250,150 -50,150 -50,-50
3D body: height 320, standoff -120, extent -12.5,87.5 12.5,112.5
3D body: height 90, standoff 0, extent -50,-45.99 50,146.01
3D body: height 320, standoff -120, extent -12.5,-12.5 12.5,12.5
3D body: height 320, standoff -120, extent 87.5,87.5 112.5,112.5
3D body: height 90, standoff 0, extent 50,-45.99 150,146.01
3D body: height 320, standoff -120, extent 87.5,-12.5 112.5,12.5
3D body: height 320, standoff -120, extent 187.5,87.5 212.5,112.5
3D body: height 90, standoff 0, extent 150,-45.99 250,146.01
3D body: height 320, standoff -120, extent 187.5,-12.5 212.5,12.5

## 146256-4 [mil] "CONN Header Breakaway"
pads (8):
  rect 50x70 hole 35: 1(0,0)
  oval 50x70 hole 35: 2(0,100) 3(100,0) 4(100,100) 5(200,0) 6(200,100) 7(300,0) 8(300,100)
Top Overlay:
  lines w7.87: -50,50 50,50 50,-50 ; -50,-50 350,-50 350,150 -50,150 -50,-50
Mechanical 1:
  lines w7.87: -50,-50 -50,150 350,150 350,-50 -50,-50
3D body: height 320, standoff -120, extent -12.5,87.5 12.5,112.5
3D body: height 90, standoff 0, extent -50,-45.99 50,146.01
3D body: height 320, standoff -120, extent -12.5,-12.5 12.5,12.5
3D body: height 320, standoff -120, extent 87.5,87.5 112.5,112.5
3D body: height 90, standoff 0, extent 50,-45.99 150,146.01
3D body: height 320, standoff -120, extent 87.5,-12.5 112.5,12.5
3D body: height 320, standoff -120, extent 187.5,87.5 212.5,112.5
3D body: height 90, standoff 0, extent 150,-45.99 250,146.01
3D body: height 320, standoff -120, extent 187.5,-12.5 212.5,12.5
3D body: height 320, standoff -120, extent 287.5,87.5 312.5,112.5
3D body: height 90, standoff 0, extent 250,-45.99 350,146.01
3D body: height 320, standoff -120, extent 287.5,-12.5 312.5,12.5

## 146256-5 [mil] "CONN Header Breakaway"
pads (10):
  rect 50x70 hole 35: 1(0,0)
  oval 50x70 hole 35: 2(0,100) 3(100,0) 4(100,100) 5(200,0) 6(200,100) 7(300,0) 8(300,100) 9(400,0) 10(400,100)
Top Overlay:
  lines w7.87: -50,50 50,50 50,-50 ; -50,-50 450,-50 450,150 -50,150 -50,-50
Mechanical 1:
  lines w7.87: -50,-50 -50,150 450,150 450,-50 -50,-50
3D body: height 320, standoff -120, extent -12.5,87.5 12.5,112.5
3D body: height 90, standoff 0, extent -50,-45.99 50,146.01
3D body: height 320, standoff -120, extent -12.5,-12.5 12.5,12.5
3D body: height 320, standoff -120, extent 87.5,87.5 112.5,112.5
3D body: height 90, standoff 0, extent 50,-45.99 150,146.01
3D body: height 320, standoff -120, extent 87.5,-12.5 112.5,12.5
3D body: height 320, standoff -120, extent 187.5,87.5 212.5,112.5
3D body: height 90, standoff 0, extent 150,-45.99 250,146.01
3D body: height 320, standoff -120, extent 187.5,-12.5 212.5,12.5
3D body: height 320, standoff -120, extent 287.5,87.5 312.5,112.5
3D body: height 90, standoff 0, extent 250,-45.99 350,146.01
3D body: height 320, standoff -120, extent 287.5,-12.5 312.5,12.5
3D body: height 320, standoff -120, extent 387.5,87.5 412.5,112.5
3D body: height 90, standoff 0, extent 350,-45.99 450,146.01
3D body: height 320, standoff -120, extent 387.5,-12.5 412.5,12.5

## 146256-6 [mil] "CONN Header Breakaway"
pads (12):
  rect 50x70 hole 35: 1(0,0)
  oval 50x70 hole 35: 2(0,100) 3(100,0) 4(100,100) 5(200,0) 6(200,100) 7(300,0) 8(300,100) 9(400,0) 10(400,100) 11(500,0) 12(500,100)
Top Overlay:
  lines w7.87: -50,50 50,50 50,-50 ; -50,-50 550,-50 550,150 -50,150 -50,-50
Mechanical 1:
  lines w7.87: -50,-50 -50,150 550,150 550,-50 -50,-50
3D body: height 320, standoff -120, extent -12.5,87.5 12.5,112.5
3D body: height 90, standoff 0, extent -50,-45.99 50,146.01
3D body: height 320, standoff -120, extent -12.5,-12.5 12.5,12.5
3D body: height 320, standoff -120, extent 87.5,87.5 112.5,112.5
3D body: height 90, standoff 0, extent 50,-45.99 150,146.01
3D body: height 320, standoff -120, extent 87.5,-12.5 112.5,12.5
3D body: height 320, standoff -120, extent 187.5,87.5 212.5,112.5
3D body: height 90, standoff 0, extent 150,-45.99 250,146.01
3D body: height 320, standoff -120, extent 187.5,-12.5 212.5,12.5
3D body: height 320, standoff -120, extent 287.5,87.5 312.5,112.5
3D body: height 90, standoff 0, extent 250,-45.99 350,146.01
3D body: height 320, standoff -120, extent 287.5,-12.5 312.5,12.5
3D body: height 320, standoff -120, extent 387.5,87.5 412.5,112.5
3D body: height 90, standoff 0, extent 350,-45.99 450,146.01
3D body: height 320, standoff -120, extent 387.5,-12.5 412.5,12.5
3D body: height 320, standoff -120, extent 487.5,87.5 512.5,112.5
3D body: height 90, standoff 0, extent 450,-45.99 550,146.01
3D body: height 320, standoff -120, extent 487.5,-12.5 512.5,12.5

## 146256-7 [mil] "CONN Header Breakaway"
pads (14):
  rect 50x70 hole 35: 1(0,0)
  oval 50x70 hole 35: 2(0,100) 3(100,0) 4(100,100) 5(200,0) 6(200,100) 7(300,0) 8(300,100) 9(400,0) 10(400,100) 11(500,0) 12(500,100) 13(600,0) 14(600,100)
Top Overlay:
  lines w7.87: -50,50 50,50 50,-50 ; -50,-50 -50,150 650,150 650,-50 -50,-50
Mechanical 1:
  lines w7.87: -50,-50 650,-50 650,150 -50,150 -50,-50
3D body: height 320, standoff -120, extent -12.5,87.5 12.5,112.5
3D body: height 90, standoff 0, extent -50,-45.99 50,146.01
3D body: height 320, standoff -120, extent -12.5,-12.5 12.5,12.5
3D body: height 320, standoff -120, extent 87.5,87.5 112.5,112.5
3D body: height 90, standoff 0, extent 50,-45.99 150,146.01
3D body: height 320, standoff -120, extent 87.5,-12.5 112.5,12.5
3D body: height 320, standoff -120, extent 187.5,87.5 212.5,112.5
3D body: height 90, standoff 0, extent 150,-45.99 250,146.01
3D body: height 320, standoff -120, extent 187.5,-12.5 212.5,12.5
3D body: height 320, standoff -120, extent 287.5,87.5 312.5,112.5
3D body: height 90, standoff 0, extent 250,-45.99 350,146.01
3D body: height 320, standoff -120, extent 287.5,-12.5 312.5,12.5
3D body: height 320, standoff -120, extent 387.5,87.5 412.5,112.5
3D body: height 90, standoff 0, extent 350,-45.99 450,146.01
3D body: height 320, standoff -120, extent 387.5,-12.5 412.5,12.5
3D body: height 320, standoff -120, extent 487.5,87.5 512.5,112.5
3D body: height 90, standoff 0, extent 450,-45.99 550,146.01
3D body: height 320, standoff -120, extent 487.5,-12.5 512.5,12.5
3D body: height 320, standoff -120, extent 587.5,87.5 612.5,112.5
3D body: height 90, standoff 0, extent 550,-45.99 650,146.01
3D body: height 320, standoff -120, extent 587.5,-12.5 612.5,12.5

## 146256-8 [mil] "CONN Header Breakaway"
pads (16):
  rect 50x70 hole 35: 1(0,0)
  oval 50x70 hole 35: 2(0,100) 3(100,0) 4(100,100) 5(200,0) 6(200,100) 7(300,0) 8(300,100) 9(400,0) 10(400,100) 11(500,0) 12(500,100) 13(600,0) 14(600,100) 15(700,0) 16(700,100)
Top Overlay:
  lines w7.87: -50,50 50,50 50,-50 ; -50,-50 -50,150 750,150 750,-50 -50,-50
Mechanical 1:
  lines w7.87: -50,-50 750,-50 750,150 -50,150 -50,-50
3D body: height 320, standoff -120, extent -12.5,87.5 12.5,112.5
3D body: height 90, standoff 0, extent -50,-45.99 50,146.01
3D body: height 320, standoff -120, extent -12.5,-12.5 12.5,12.5
3D body: height 320, standoff -120, extent 87.5,87.5 112.5,112.5
3D body: height 90, standoff 0, extent 50,-45.99 150,146.01
3D body: height 320, standoff -120, extent 87.5,-12.5 112.5,12.5
3D body: height 320, standoff -120, extent 187.5,87.5 212.5,112.5
3D body: height 90, standoff 0, extent 150,-45.99 250,146.01
3D body: height 320, standoff -120, extent 187.5,-12.5 212.5,12.5
3D body: height 320, standoff -120, extent 287.5,87.5 312.5,112.5
3D body: height 90, standoff 0, extent 250,-45.99 350,146.01
3D body: height 320, standoff -120, extent 287.5,-12.5 312.5,12.5
3D body: height 320, standoff -120, extent 387.5,87.5 412.5,112.5
3D body: height 90, standoff 0, extent 350,-45.99 450,146.01
3D body: height 320, standoff -120, extent 387.5,-12.5 412.5,12.5
3D body: height 320, standoff -120, extent 487.5,87.5 512.5,112.5
3D body: height 90, standoff 0, extent 450,-45.99 550,146.01
3D body: height 320, standoff -120, extent 487.5,-12.5 512.5,12.5
3D body: height 320, standoff -120, extent 587.5,87.5 612.5,112.5
3D body: height 90, standoff 0, extent 550,-45.99 650,146.01
3D body: height 320, standoff -120, extent 587.5,-12.5 612.5,12.5
3D body: height 320, standoff -120, extent 687.5,87.5 712.5,112.5
3D body: height 90, standoff 0, extent 650,-45.99 750,146.01
3D body: height 320, standoff -120, extent 687.5,-12.5 712.5,12.5

## 146256-9 [mil] "CONN Header Breakaway"
pads (18):
  rect 50x70 hole 35: 1(0,0)
  oval 50x70 hole 35: 2(0,100) 3(100,0) 4(100,100) 5(200,0) 6(200,100) 7(300,0) 8(300,100) 9(400,0) 10(400,100) 11(500,0) 12(500,100) 13(600,0) 14(600,100) 15(700,0) 16(700,100) 17(800,0) 18(800,100)
Top Overlay:
  lines w7.87: -50,50 50,50 50,-50 ; -50,-50 850,-50 850,150 -50,150 -50,-50
Mechanical 1:
  lines w7.87: -50,-50 -50,150 850,150 850,-50 -50,-50
3D body: height 320, standoff -120, extent 787.5,-12.5 812.5,12.5
3D body: height 90, standoff 0, extent 750,-45.99 850,146.01
3D body: height 320, standoff -120, extent 787.5,87.5 812.5,112.5
3D body: height 320, standoff -120, extent 687.5,-12.5 712.5,12.5
3D body: height 90, standoff 0, extent 650,-45.99 750,146.01
3D body: height 320, standoff -120, extent 687.5,87.5 712.5,112.5
3D body: height 320, standoff -120, extent 587.5,-12.5 612.5,12.5
3D body: height 90, standoff 0, extent 550,-45.99 650,146.01
3D body: height 320, standoff -120, extent 587.5,87.5 612.5,112.5
3D body: height 320, standoff -120, extent 487.5,-12.5 512.5,12.5
3D body: height 90, standoff 0, extent 450,-45.99 550,146.01
3D body: height 320, standoff -120, extent 487.5,87.5 512.5,112.5
3D body: height 320, standoff -120, extent 387.5,-12.5 412.5,12.5
3D body: height 90, standoff 0, extent 350,-45.99 450,146.01
3D body: height 320, standoff -120, extent 387.5,87.5 412.5,112.5
3D body: height 320, standoff -120, extent 287.5,-12.5 312.5,12.5
3D body: height 90, standoff 0, extent 250,-45.99 350,146.01
3D body: height 320, standoff -120, extent 287.5,87.5 312.5,112.5
3D body: height 320, standoff -120, extent 187.5,-12.5 212.5,12.5
3D body: height 90, standoff 0, extent 150,-45.99 250,146.01
3D body: height 320, standoff -120, extent 187.5,87.5 212.5,112.5
3D body: height 320, standoff -120, extent 87.5,-12.5 112.5,12.5
3D body: height 90, standoff 0, extent 50,-45.99 150,146.01
3D body: height 320, standoff -120, extent 87.5,87.5 112.5,112.5
3D body: height 320, standoff -120, extent -12.5,-12.5 12.5,12.5
3D body: height 90, standoff 0, extent -50,-45.99 50,146.01
3D body: height 320, standoff -120, extent -12.5,87.5 12.5,112.5